# Altium schematic symbol library Sensor.SchLib: 17 symbols
Pins are listed as number, name and electrical type; pins without a type are passive.

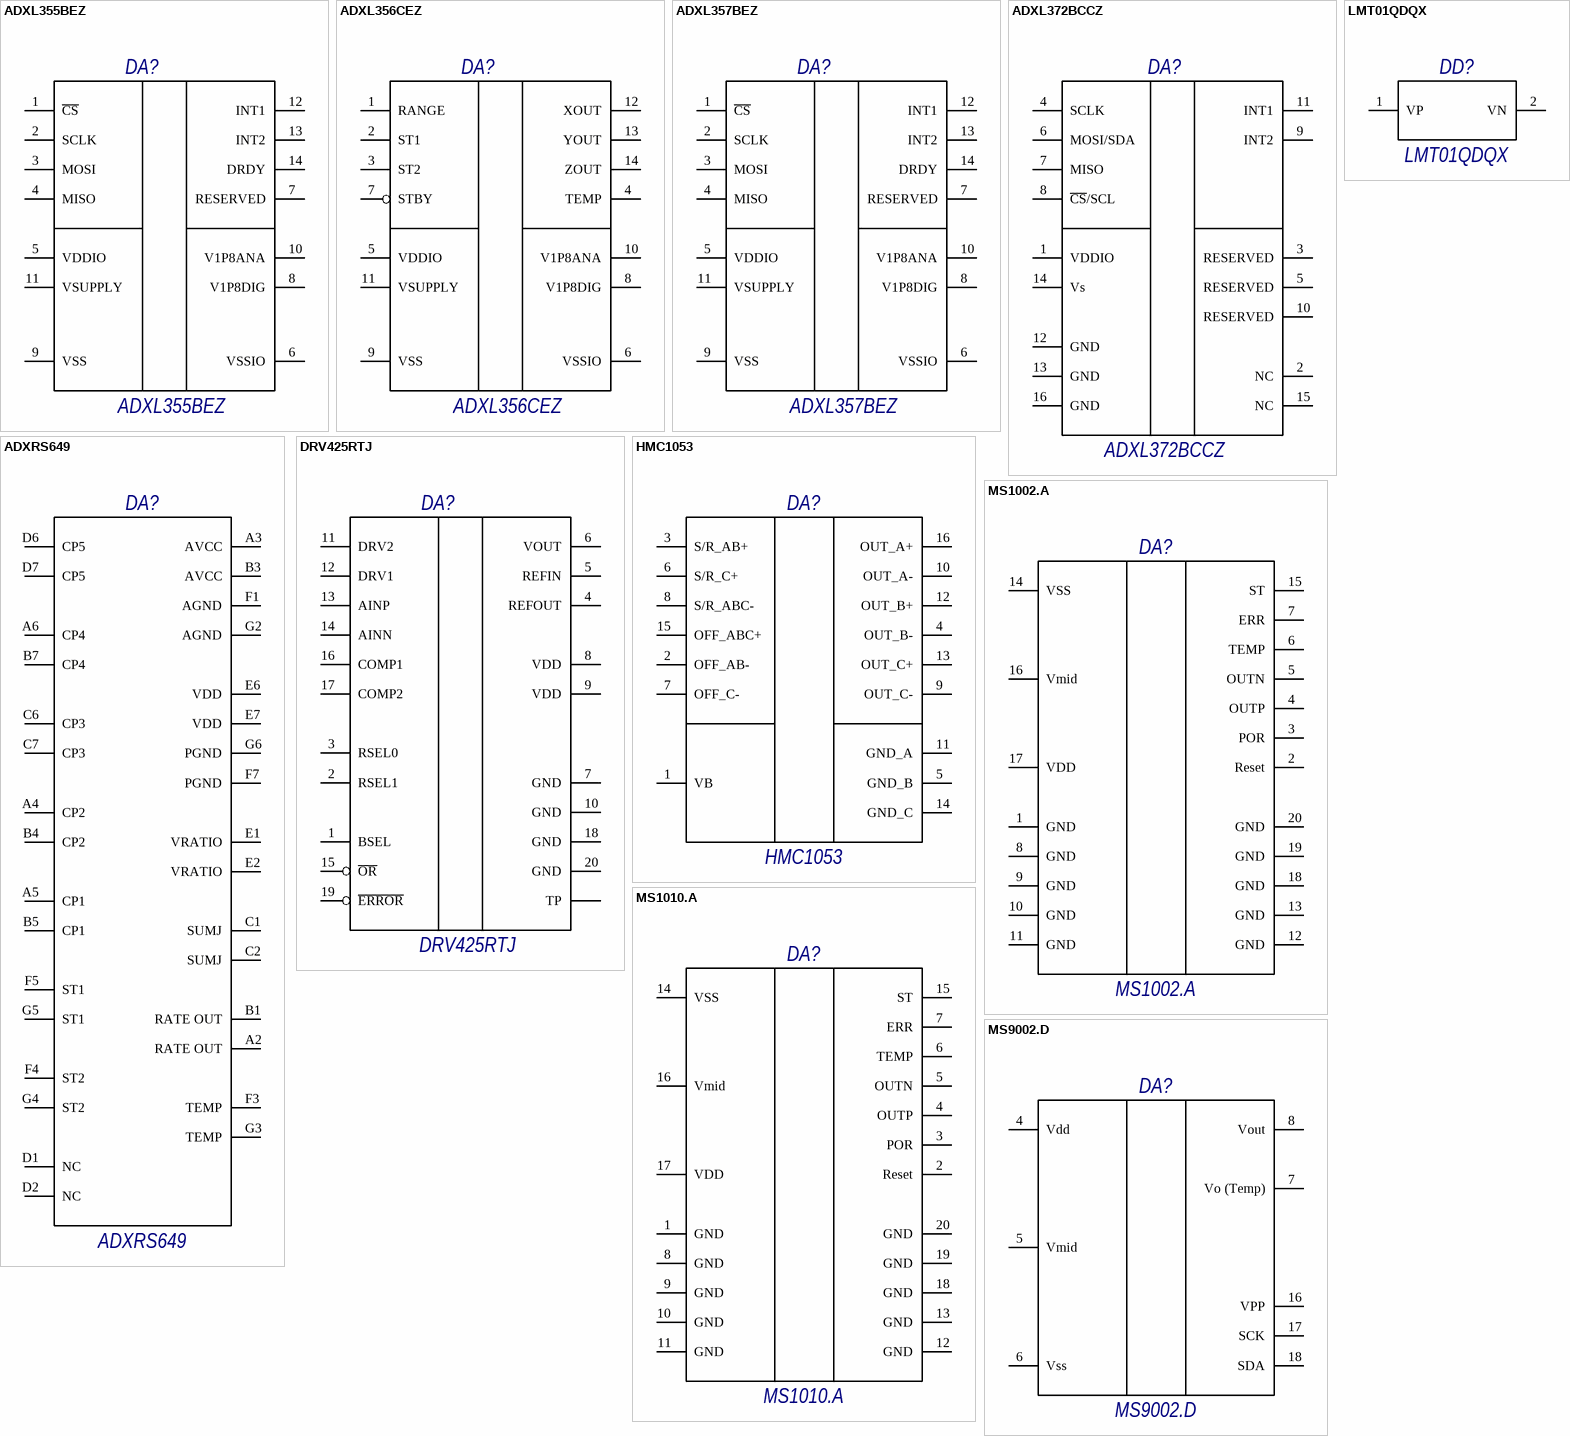
[diagram p0: symbols ADXL355BEZ to MS9002.D]

## ADXL355BEZ
designator DA?, comment PartNumber: ADXL355BEZ  (hidden comment: Микросхема ADXL355BEZ фирма "Analog Devices")
Accelerometer X, Y, Z Axis ±2g, 4g, 8g 1.5kHz 14-CLCC (6x6); GOST: Микросхема ADXL355BEZ фирма "Analog Devices"
footprint LCC-14 (E-14-1) (14-Terminal Ceramic Leadless Chip Carrier [LCC]  (E-14-1))
pins: 1 ~{CS}, 2 SCLK, 3 MOSI, 4 MISO, 5 VDDIO, 6 VSSIO, 7 RESERVED, 8 V1P8DIG, 9 VSS, 10 V1P8ANA, 11 VSUPPLY, 12 INT1, 13 INT2, 14 DRDY

## ADXL356CEZ
designator DA?, comment PartNumber: ADXL356CEZ  (hidden comment: Микросхема ADXL356CEZ фирма "Analog Devices")
Low Noise, Low Drift, Low Power,   3-Axis MEMS Accelerometer  s; GOST: Микросхема ADXL356CEZ фирма "Analog Devices"
footprint LCC-14 (E-14-1) (14-Terminal Ceramic Leadless Chip Carrier [LCC]  (E-14-1))
pins: 1 RANGE, 2 ST1, 3 ST2, 4 TEMP, 5 VDDIO, 6 VSSIO, 7 STBY, 8 V1P8DIG, 9 VSS, 10 V1P8ANA, 11 VSUPPLY, 12 XOUT, 13 YOUT, 14 ZOUT

## ADXL357BEZ
designator DA?, comment PartNumber: ADXL357BEZ  (hidden comment: Микросхема ADXL357BEZ фирма "Analog Devices")
Accelerometer X, Y, Z Axis ±10g, ±20g, ±40g 1Hz ~ 1kHz 14-CLCC (6x6); GOST: Микросхема ADXL357BEZ фирма "Analog Devices"
footprint LCC-14 (E-14-1) (14-Terminal Ceramic Leadless Chip Carrier [LCC]  (E-14-1))
pins: 1 ~{CS}, 2 SCLK, 3 MOSI, 4 MISO, 5 VDDIO, 6 VSSIO, 7 RESERVED, 8 V1P8DIG, 9 VSS, 10 V1P8ANA, 11 VSUPPLY, 12 INT1, 13 INT2, 14 DRDY

## ADXL372BCCZ
designator DA?, comment PartNumber: ADXL372BCCZ  (hidden comment: Микросхема ADXL372BCCZ фирма "Analog Devices")
Ultralow power, 3-axis, ±200 g MEMS  accelerometer that consumes 22 µA at a 3200 Hz output data  rate (LGA-16 (CC-16-4)); GOST: Микросхема ADXL372BCCZ фирма "Analog Devices"
footprint LGA-16 (CC-16-4)
pins: 1 VDDIO, 2 NC, 3 RESERVED, 4 SCLK, 5 RESERVED, 6 MOSI/SDA, 7 MISO, 8 ~{CS}/SCL, 9 INT2, 10 RESERVED, 11 INT1, 12 GND, 13 GND, 14 Vs, 15 NC, 16 GND

## ADXRS649
designator DA?, comment PartNumber: ADXRS649  (hidden comment: Микросхема ADXRS649 фирма "Analog Devices")
Fast Starting, ±20,000°/secVibration Rejecting Rate Gyro; GOST: Микросхема ADXRS649 фирма "Analog Devices"
footprint BG-32-3 (Analog Devices (CBGA-32 ))
pins: A2 RATE OUT, A3 AVCC, A4 CP2, A5 CP1, A6 CP4, B1 RATE OUT, B3 AVCC, B4 CP2, B5 CP1, B7 CP4, C1 SUMJ, C2 SUMJ, C6 CP3, C7 CP3, D1 NC, D2 NC, D6 CP5, D7 CP5, E1 VRATIO, E2 VRATIO, E6 VDD, E7 VDD, F1 AGND, F3 TEMP, F4 ST2, F5 ST1, F7 PGND, G2 AGND, G3 TEMP, G4 ST2, G5 ST1, G6 PGND

## DRV425RTJ
designator DA?, comment PartNumber: DRV425RTJ  (hidden comment: Микросхема DRV425RTJ фирма "Texas Instruments")
Fluxgate Magnetic-Field Sensor; GOST: Микросхема DRV425RTJ фирма "Texas Instruments"
footprint RTJ (S-PWQFN-N20) (WQFN-20, Body 4x4mm H=0.8mm Pitch=0.5mm (TI))
pins: 1 BSEL, 2 RSEL1, 3 RSEL0, 4 REFOUT, 5 REFIN, 6 VOUT, 7 GND, 8 VDD, 9 VDD, 10 GND, 11 DRV2, 12 DRV1, 13 AINP, 14 AINN, 15 ~{OR}, 16 COMP1, 17 COMP2, 18 GND, 19 ~{ERROR}, 20 GND, TPAD TP

## HMC1053
designator DA?, comment PartNumber: HMC1053  (hidden comment: Микросхема HMC1053 фирма "Honeywell")
Low Noise, 3 Axis Magnetic Sensors; GOST: Микросхема HMC1053 фирма "Honeywell"
footprint LCC-16 (HMC1053)
pins: 1 VB, 2 OFF_AB-, 3 S/R_AB+, 4 OUT_B-, 5 GND_B, 6 S/R_C+, 7 OFF_C-, 8 S/R_ABC-, 9 OUT_C-, 10 OUT_A-, 11 GND_A, 12 OUT_B+, 13 OUT_C+, 14 GND_C, 15 OFF_ABC+, 16 OUT_A+

## LMT01QDQX
designator DD?, comment PartNumber: LMT01QDQX  (hidden comment: Микросхема LMT01QDQX фирма "Texas Instruments")
0.5°C Accurate 2-Pin Digital Output Temperature Sensor With Pulse Count  Interface; GOST: Микросхема LMT01QDQX фирма "Texas Instruments"
footprint WSON-2 (LMT01QDQX) (Dim 2.5mm*1.7mm H=0.8mm)
pins: 1 VP, 2 VN

## MS1002.A
designator DA?, comment PartNumber: MS1002.A  (hidden comment: Микросхема MS1002.A фирма "Colibrys acceleration")
Single axis analog accelerometer ± 2g; GOST: Микросхема MS1002.A фирма "Colibrys acceleration"
footprint LCC-20 (MS1010.A) (8.9x8.9 mm Pitch=1.27mm H=3.24mm)
pins: 1 GND, 2 Reset, 3 POR, 4 OUTP, 5 OUTN, 6 TEMP, 7 ERR, 8 GND, 9 GND, 10 GND, 11 GND, 12 GND, 13 GND, 14 VSS, 15 ST, 16 Vmid, 17 VDD, 18 GND, 19 GND, 20 GND

## MS1010.A
designator DA?, comment PartNumber: MS1010.A  (hidden comment: Микросхема MS1010.A фирма "Colibrys acceleration")
Single axis analog accelerometer ±10g; GOST: Микросхема MS1010.A фирма "Colibrys acceleration"
footprint LCC-20 (MS1010.A) (8.9x8.9 mm Pitch=1.27mm H=3.24mm)
pins: 1 GND, 2 Reset, 3 POR, 4 OUTP, 5 OUTN, 6 TEMP, 7 ERR, 8 GND, 9 GND, 10 GND, 11 GND, 12 GND, 13 GND, 14 VSS, 15 ST, 16 Vmid, 17 VDD, 18 GND, 19 GND, 20 GND

## MS9002.D
designator DA?, comment PartNumber: MS9002.D  (hidden comment: Микросхема MS9002.D фирма "Colibrys acceleration")
Single axis analog accelerometer ± 2g; GOST: Микросхема MS9002.D фирма "Colibrys acceleration"
footprint LCC-20 (MS9000.D) (8.9x8.9 mm Pitch=1.27mm H=3.24mm)
pins: 4 Vdd, 5 Vmid, 6 Vss, 7 Vo (Temp), 8 Vout, 16 VPP, 17 SCK, 18 SDA

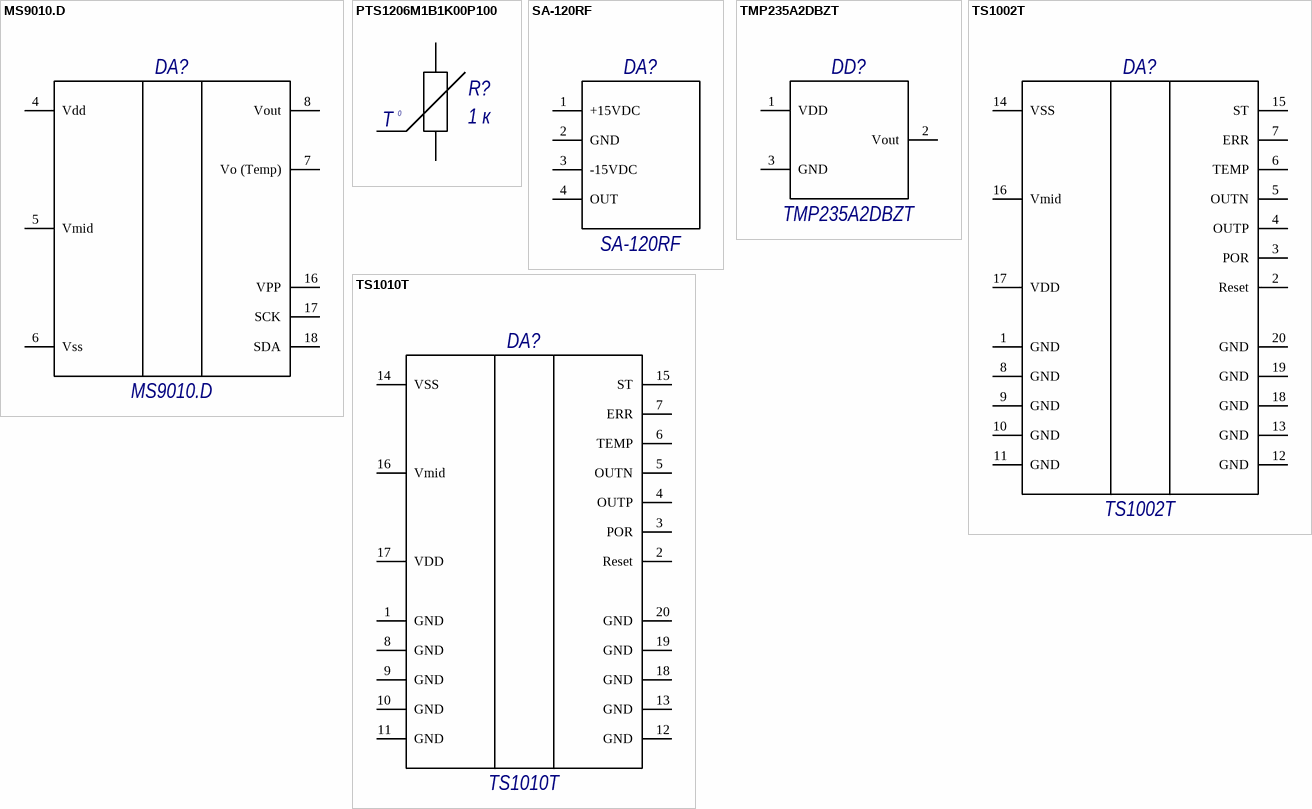
[diagram p1: symbols MS9010.D to TS1010T]

## MS9010.D
designator DA?, comment PartNumber: MS9010.D  (hidden comment: Микросхема MS9010.D фирма "Colibrys acceleration")
Single axis analog accelerometer ± 10g; GOST: Микросхема MS9010.D фирма "Colibrys acceleration"
footprint LCC-20 (MS9000.D) (8.9x8.9 mm Pitch=1.27mm H=3.24mm)
pins: 4 Vdd, 5 Vmid, 6 Vss, 7 Vo (Temp), 8 Vout, 16 VPP, 17 SCK, 18 SDA

## PTS1206M1B1K00P100
designator R?, comment value 1 к  (hidden comment: Терморезистор PTS1206M1B1K00P100 фирма "Vishay")
Termoresistor; Manufacturer: VISHAY; Tol: 0,3%; GOST: Терморезистор PTS1206M1B1K00P100 фирма "Vishay"; PartNumber: PTS1206M1B1K00P100
footprint R1206_H06M (Dim 3.2mm*1.6mm H=0.6mm)
pins: 1, 2
1 alternate drawing of the same symbol
text: T; 0

## SA-120RF
designator DA?, comment PartNumber: SA-120RF  (hidden comment: Микросхема SA-120RF фирма "Columbia Research Laboratories, Inc.")
Low Noise, 3 Axis Magnetic Sensors; GOST: Микросхема SA-120RF фирма "Columbia Research Laboratories, Inc."
footprint SA-120RF (Linear Accelerometer D=27.9 H=18.55)
pins: 1 +15VDC, 2 GND, 3 -15VDC, 4 OUT

## TMP235A2DBZT
designator DD?, comment PartNumber: TMP235A2DBZT  (hidden comment: Микросхема TMP235A2DBZT фирма "Texas Instruments")
Low-Power, High-Accuracy Analog Output Temperature Sensors –40°C to +150°C; GOST: Микросхема TMP235A2DBZT фирма "Texas Instruments"
footprint SOT-23-3 (Dim 3mm*1.4mm H=1.1mm)
pins: 1 VDD, 2 Vout, 3 GND

## TS1002T
designator DA?, comment PartNumber: TS1002T  (hidden comment: Микросхема TS1002T фирма "Colibrys acceleration")
Одноосевой высокотемпературный акселерометр с дифференциальным аналоговым выходом ± 2g; GOST: Микросхема TS1002T фирма "Colibrys acceleration"
footprint LCC-20 (TS10xxT) (8.9x8.9 mm Pitch=1.27mm H=3.24mm)
pins: 1 GND, 2 Reset, 3 POR, 4 OUTP, 5 OUTN, 6 TEMP, 7 ERR, 8 GND, 9 GND, 10 GND, 11 GND, 12 GND, 13 GND, 14 VSS, 15 ST, 16 Vmid, 17 VDD, 18 GND, 19 GND, 20 GND

## TS1010T
designator DA?, comment PartNumber: TS1010T  (hidden comment: Микросхема TS1010T фирма "Colibrys acceleration")
Одноосевой высокотемпературный акселерометр с дифференциальным аналоговым выходом ± 10g; GOST: Микросхема TS1010T фирма "Colibrys acceleration"
footprint LCC-20 (TS10xxT) (8.9x8.9 mm Pitch=1.27mm H=3.24mm)
pins: 1 GND, 2 Reset, 3 POR, 4 OUTP, 5 OUTN, 6 TEMP, 7 ERR, 8 GND, 9 GND, 10 GND, 11 GND, 12 GND, 13 GND, 14 VSS, 15 ST, 16 Vmid, 17 VDD, 18 GND, 19 GND, 20 GND